# EAGLE library part 679306124022 (library Wurth_Connectors_WR-WTB)
WR-WTB 1.50 mm SMT Male Vertical Shrouded Header KIND PROPERTIES: Pitch:1.5 mm Gender:Male MATERIAL PROPERTIES: Insulator Material :PA6T Insulator Flammability Rating:UL94 V-0 Color:Ivory Contact Material:Copper Alloy Contact Plating:Tin Contact Type:Stamped GENERAL INFORMATION Operating Temperature:-25 up to +85 °C Compliance: RoHS Working Voltage:50 V (AC) Withstanding Voltage:500 V (AC) Contact Resistance:20 mΩ RISO:100MΩ CERTIFICATION UL Approval:E323964 PACKAGING PROPERTIES Packaging:Tape and Reel with Cap <https://katalog.we-online.com/media/images/v2/o33374v209%20Family_WR-WTB_6793xx124022.jpg> Details see: https://katalog.we-online.com/en/em/WTB_1_50_SMT_MALE_VERTICAL_SHROUDED_HEADER_6793XX124022 Updated by Yingchun,Shan 2019-11-08 2019 (C) Würth Elektronik
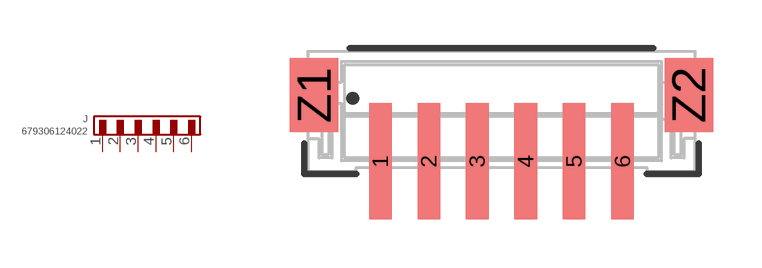
[diagram p65: symbol with the pads of 679306124022; footprint 679306124022]

Designator prefix J

## 679306124022 (CONTACT-RESISTANCE: 20mOhm; DATASHEET-URL: https://www.we-online.com/redexpert/spec/679306124022?ae; GENDER: Male; IR: 1A; L: 12mm; MOUNT: SMT; PACKAGING: Tape and Reel with Cap; PART-NUMBER: 679306124022; PCB-CABLE-PANEL: PCB; PINS: 6; PITCH: 1.5mm; TYPE: Vertical; VALUE: 679306124022; WORKING-VOLTAGE: 50V(AC))  [679306124022]
1  1  pas
2  2  pas
3  3  pas
4  4  pas
5  5  pas
6  6  pas

## Footprint 679306124022 (pad centres in mm)
WR-WTB 1.50 mm SMT Male Vertical Shrouded Header,6Pins
smd 0.7 x 3.6: 1 -3.75,-1.55; 2 -2.25,-1.55; 3 -0.75,-1.55; 4 0.75,-1.55; 5 2.25,-1.55; 6 3.75,-1.55
smd 1.5 x 2.3: Z1 -5.8,0.5; Z2 5.8,0.5